# EAGLE library part OPA4180 (library TI)
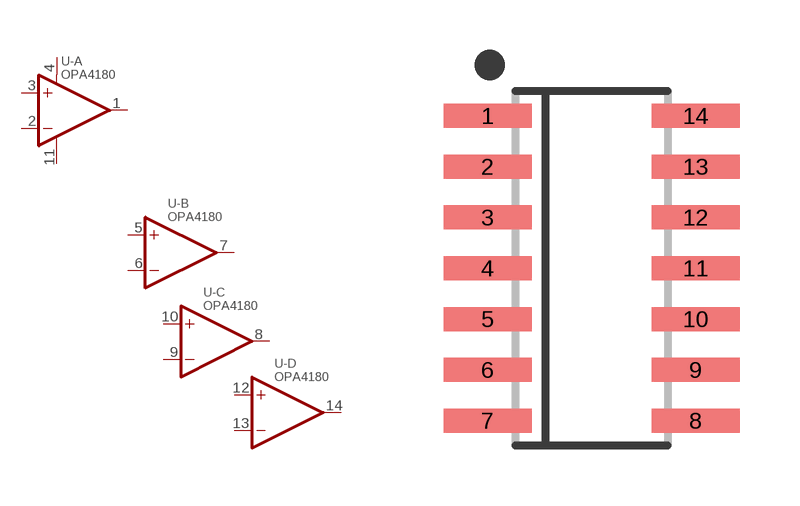
[diagram p7: symbol with the pads of SOIC-14; footprint SOIC-14]

Designator prefix U; gates -A=OPAMP_+-_VDD -B=OPAMP_+- -C=OPAMP_+- -D=OPAMP_+-

## OPA4180ID  [SOIC-14]
1  -A:OUT  out
2  -A:-IN  in
3  -A:+IN  in
4  -A:V+  pwr
5  -B:+IN  in
6  -B:-IN  in
7  -B:OUT  out
8  -C:OUT  out
9  -C:-IN  in
10  -C:+IN  in
11  -A:V-  pwr
12  -D:+IN  in
13  -D:-IN  in
14  -D:OUT  out

## Footprint SOIC-14 (pad centres in mm)
smd 2.2 x 0.6: 1 -2.6,3.81; 2 -2.6,2.54; 3 -2.6,1.27; 4 -2.6,0; 5 -2.6,-1.27; 6 -2.6,-2.54; 7 -2.6,-3.81; 8 2.6,-3.81; 9 2.6,-2.54; 10 2.6,-1.27; 11 2.6,0; 12 2.6,1.27; 13 2.6,2.54; 14 2.6,3.81